# EAGLE library part CON_01X25 (library MF_Connectors)
Library: MF_Connectors Description: Header Connector with 25 Positions and 01 Rows. Use the LABEL Attribute to label the pin on the schematic and PCB. You can remove the attributes on the PCB by using the SMASH function on the part and then deleting the text.
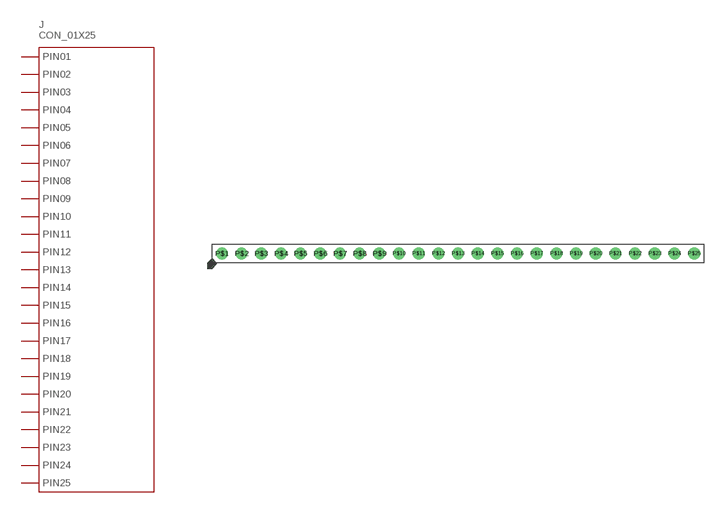
[diagram p22: symbol with the pads of PTH_2.54MM_01X25; footprint PTH_2.54MM_01X25]

Designator prefix J

## CON_01X25_PTH_2.54MM (HOUSEPART: YES; MPN: MF-CON-2.54mm-01x25; POPULATE: 1; URL: https://factory.macrofab.com/part/MF-CON-2.54mm-01x25; VALUE: MF-CON-2.54mm-01x25)  [PTH_2.54MM_01X25]
P$1  PIN1
P$2  PIN2
P$3  PIN3
P$4  PIN4
P$5  PIN5
P$6  PIN6
P$7  PIN7
P$8  PIN8
P$9  PIN9
P$10  PIN10
P$11  PIN11
P$12  PIN12
P$13  PIN13
P$14  PIN14
P$15  PIN15
P$16  PIN16
P$17  PIN17
P$18  PIN18
P$19  PIN19
P$20  PIN20
P$21  PIN21
P$22  PIN22
P$23  PIN23
P$24  PIN24
P$25  PIN25

## Footprint PTH_2.54MM_01X25 (pad centres in mm)
Description: Package for 2.54MM Pitch Header 25 Position. Based on 4UCON 00834.
drill 1: P$1 -30.48,0; P$2 -27.94,0; P$3 -25.4,0; P$4 -22.86,0; P$5 -20.32,0; P$6 -17.78,0; P$7 -15.24,0; P$8 -12.7,0; P$9 -10.16,0; P$10 -7.62,0; P$11 -5.08,0; P$12 -2.54,0; P$13 0,0; P$14 2.54,0; P$15 5.08,0; P$16 7.62,0; P$17 10.16,0; P$18 12.7,0; P$19 15.24,0; P$20 17.78,0; P$21 20.32,0; P$22 22.86,0; P$23 25.4,0; P$24 27.94,0; P$25 30.48,0